# Altium footprint library Components - 20.09.24 - 12.14.PcbLib: 1 footprints
Each footprint in its own frame and in the unit in brackets; x right, y up, seen from the top. Pads: shape width x height; smd on the part's side, far side on the other; paste and mask are expansions set on the pad; w line width, h text height; cw(c..) or ccw(c..) is an arc to the next point about the centre after c.
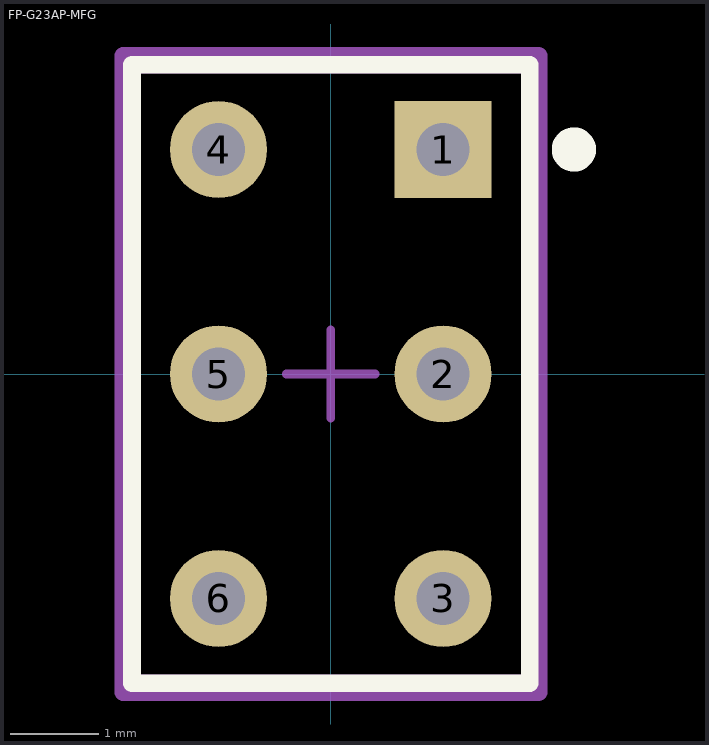
[diagram p0: the footprint, top view; thin cyan lines are the x and y axes]

## FP-G23AP-MFG [mm]
pads (6):
  rect 1.1x1.1 hole 0.6 paste-1000 mask+0: 1(1.27,2.54)
  round 1.1 hole 0.6 paste-1000 mask+0: 2(1.27,0) 3(1.27,-2.54) 4(-1.27,2.54) 5(-1.27,0) 6(-1.27,-2.54)
Top Overlay:
  circle w0.25: c2.75,2.54 r0.125
  lines w0.2: -2.25,-3.5 2.25,-3.5 2.25,3.5 -2.25,3.5 -2.25,-3.5
Mechanical 5:
  lines w0.2: -2.35,-3.6 2.35,-3.6 2.35,3.6 -2.35,3.6 -2.35,-3.6
  text ".Designator" at 0,0.187 h1
Mechanical 13:
  lines w0.2: -2.25,-3.5 2.25,-3.5 2.25,3.5 -2.25,3.5 -2.25,-3.5
Mechanical 15:
  lines w0.2: -2.35,-3.6 2.35,-3.6 2.35,3.6 -2.35,3.6 -2.35,-3.6
Mechanical 16:
  lines w0.1: -0.5,0 0.5,0 ; 0,-0.5 0,0.5
3D body "Switch_NKK_Switches_G23AP_eec.STEP": height 0.25, standoff 0, extent -2.35,-3.6 2.35,3.6